# Altium footprint library Conn_Molex_43045-0600_eec_MFG.PcbLib: 1 footprints
Each footprint in its own frame and in the unit in brackets; x right, y up, seen from the top. Pads: shape width x height; smd on the part's side, far side on the other; paste and mask are expansions set on the pad; w line width, h text height; cw(c..) or ccw(c..) is an arc to the next point about the centre after c.
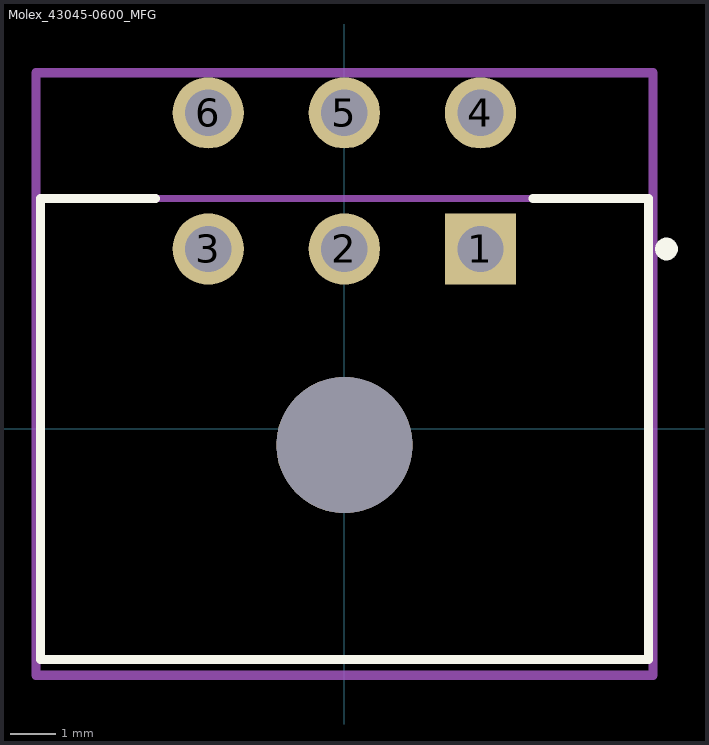
[diagram p0: the footprint, top view; thin cyan lines are the x and y axes]

## Molex_43045-0600_MFG [mm]
pads (7):
  rect 1.57x1.57 hole 1.02 paste-1000 mask+0: 1(3,3.965)
  round 1.57 hole 1.02 paste-1000 mask+0: 2(0,3.965) 3(-3,3.965) 4(3,6.965) 5(0,6.965) 6(-3,6.965)
  round 3 hole 3 unplated paste-1000 mask+0: ""(0,-0.355)
Top Overlay:
  circle w0.25: c7.1,3.965 r0.125
  lines w0.2: -4.16,5.08 -6.7,5.08 -6.7,-5.08 6.7,-5.08 6.7,5.08 4.16,5.08
Mechanical 10:
  lines w0.2: -6.8,-5.43 -6.8,7.85 6.8,7.85 6.8,-5.43 -6.8,-5.43
  text "43045-0600" at 0,1.21 h1
Mechanical 12:
  lines w0.15: -6.7,-5.08 -6.7,5.08 6.7,5.08 6.7,-5.08 -6.7,-5.08
Mechanical 15:
  lines w0.1: -0.5,0 0.5,0 ; 0,-0.5 0,0.5
  lines w0.2: -6.8,-5.43 -6.8,7.85 6.8,7.85 6.8,-5.43 -6.8,-5.43
3D body "Conn_Molex_43045-0600_eec.STEP": height 0.25, standoff 0, extent -6.8,-5.43 6.8,7.85